# Altium schematic symbol library ELEC.SchLib: 6 symbols
Pins are listed as number, name and electrical type; pins without a type are passive.

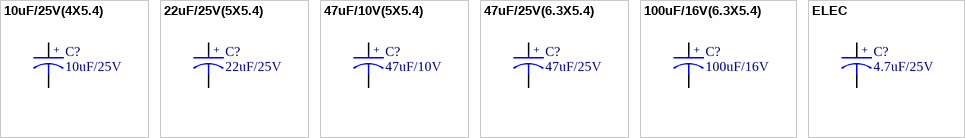
[diagram p0: symbols 10uF/25V(4X5.4) to ELEC]

## 10uF/25V(4X5.4)
designator C?, comment 10uF/25V
电解电容; 紅坝1: 醇腳; 基1: 0.161; 基2: 0.2317; 紅坝2: 惩; へ: 4X5.4; м砃戈2: *; м砃戈3: *; SAP: *; 基3: *; 紅坝3: *
footprint RB-SMD4/5.4 (Footprint not found)
pins: 1, 2
text: +

## 22uF/25V(5X5.4)
designator C?, comment 22uF/25V
电解电容; 紅坝1: 醇腳; 基1: 0.19; 基2: 0.2504; 紅坝2: 惩; м砃戈2: *; м砃戈3: *; SAP: *; 基3: *; 紅坝3: *; へ: *
footprint RB5/10
pins: 1, 2
text: +

## 47uF/10V(5X5.4)
designator C?, comment 47uF/10V
电解电容; ERP: MT0204146; 紅坝1: 醇腳; 基1: 0.19; SAP: 070602; へ: 5X5.4; 紅坝2: 惩; 基2: 0.2504; м砃戈2: *; 紅坝3: *; 基3: *
footprint RB-SMD5/5.4 (Footprint not found)
pins: 1, 2
text: +

## 47uF/25V(6.3X5.4)
designator C?, comment 47uF/25V
电解电容; ERP: MT0204147; 紅坝1: 醇腳; 基1: 0.22; 基2: 0.2902; 紅坝2: 惩; へ: 6.3X5.4; SAP: 070604; м砃戈2: *; м砃戈3: *; 基3: *; 紅坝3: *
footprint RB-SMD6.3/5.4 (Footprint not found)
pins: 1, 2
text: +

## 100uF/16V(6.3X5.4)
designator C?, comment 100uF/16V
电解电容; ERP: MT0204145; 紅坝1: 醇腳; 基1: 0.2196; 基2: 0.2902; 紅坝2: 惩; SAP: 070601; へ: 6.3X5.4; 基3: *; 紅坝3: *; м砃戈2: *; м砃戈3: *
footprint RB-SMD6.3/5.4
pins: 1, 2
text: +

## ELEC
designator C?, comment 4.7uF/25V
电解电容; 紅坝1: 醇腳; 基1: 0.161; 基2: 0.2317; 紅坝2: 惩; へ: 4X5.4; м砃戈2: *; м砃戈3: *; SAP: *; 基3: *; 紅坝3: *
footprint RB-SMD4/5.4 (Footprint not found)
pins: 1, 2
text: +